# Altium footprint library GateDrivers.PcbLib: 2 footprints
Each footprint in its own frame and in the unit in brackets; x right, y up, seen from the top. Pads: shape width x height; smd on the part's side, far side on the other; paste and mask are expansions set on the pad; w line width, h text height; cw(c..) or ccw(c..) is an arc to the next point about the centre after c.
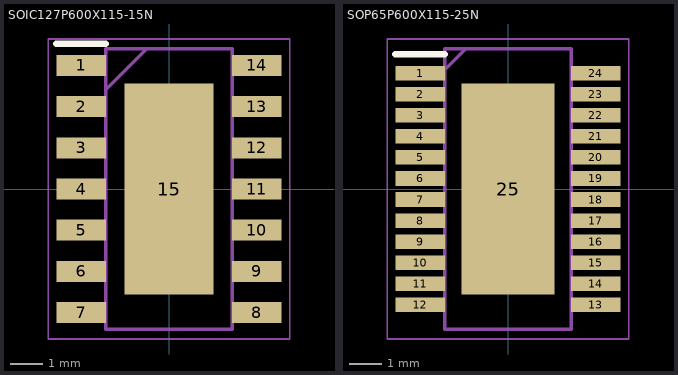
[diagram p0: the footprints below, top view; thin cyan lines are the x and y axes]

## SOIC127P600X115-15N [mm]
pads (15):
  rect 1.525x0.65 smd: 1(-2.712,3.81) 2(-2.712,2.54) 3(-2.712,1.27) 4(-2.712,0) 5(-2.712,-1.27) 6(-2.712,-2.54) 7(-2.712,-3.81) 8(2.712,-3.81) 9(2.712,-2.54) 10(2.712,-1.27) 11(2.712,0) 12(2.712,1.27) 13(2.712,2.54) 14(2.712,3.81)
  rect 2.75x6.5 smd: 15(0,0)
Top Overlay:
  lines w0.2: -3.475,4.485 -1.95,4.485
Mechanical 13:
  lines w0.1: -1.95,3.055 -0.68,4.325 ; -1.95,-4.325 1.95,-4.325 1.95,4.325 -1.95,4.325 -1.95,-4.325
Mechanical 15:
  lines w0.05: -3.725,-4.625 3.725,-4.625 3.725,4.625 -3.725,4.625 -3.725,-4.625
3D body "BTT60502ERAXUMA1.stp": height 1.15, standoff 0, extent -3,-4.325 3,4.325

## SOP65P600X115-25N [mm]
pads (25):
  rect 1.525x0.45 smd: 1(-2.712,3.575) 2(-2.712,2.925) 3(-2.712,2.275) 4(-2.712,1.625) 5(-2.712,0.975) 6(-2.712,0.325) 7(-2.712,-0.325) 8(-2.712,-0.975) 9(-2.712,-1.625) 10(-2.712,-2.275) 11(-2.712,-2.925) 12(-2.712,-3.575) 13(2.712,-3.575) 14(2.712,-2.925) 15(2.712,-2.275) 16(2.712,-1.625) 17(2.712,-0.975) 18(2.712,-0.325) 19(2.712,0.325) 20(2.712,0.975) 21(2.712,1.625) 22(2.712,2.275) 23(2.712,2.925) 24(2.712,3.575)
  rect 2.87x6.5 smd: 25(0,0)
Top Overlay:
  lines w0.2: -3.475,4.15 -1.95,4.15
Mechanical 13:
  lines w0.1: -1.95,3.675 -1.3,4.325 ; -1.95,-4.325 -1.95,4.325 1.95,4.325 1.95,-4.325 -1.95,-4.325
Mechanical 15:
  lines w0.05: -3.725,-4.625 -3.725,4.625 3.725,4.625 3.725,-4.625 -3.725,-4.625
3D body "BTT62004ESAXUMA1.stp": height 1.15, standoff 0, extent -3,-4.325 3,4.325